# Altium schematic symbol library YFF15PC1A224MT000N.SchLib: 1 symbol
Pins are listed as number, name and electrical type; pins without a type are passive.

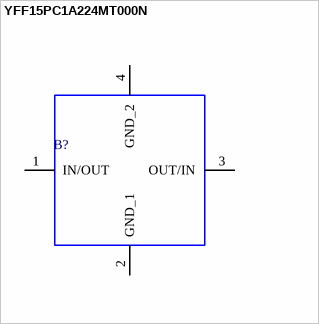
[diagram p0: symbol YFF15PC1A224MT000N]

## YFF15PC1A224MT000N
designator B?
3-terminal Filters, Insertion Loss=40dB (4MHz to 1000MHz), LxWxT: 1x0.55x0.3mm; Manufacturer_Name: TDK; Mouser Part Number: 810-YFF15PC1A224M; Mouser Price/Stock: https://www.mouser.com/Search/Refine.aspx?Keyword=810-YFF15PC1A224M; Manufacturer_Part_Number: YFF15PC1A224MT000N; Datasheet Link: https://componentsearchengine.com/Datasheets/1/YFF15PC1A224MT000N.pdf
footprint YFF15PC
pins: 1 IN/OUT, 2 GND_1, 3 OUT/IN, 4 GND_2